# Altium integrated library NXP Microcontrollers ARM7.IntLib: 82 symbols (part 1 of 11)
Pins are listed as number, name and electrical type; pins without a type are passive.

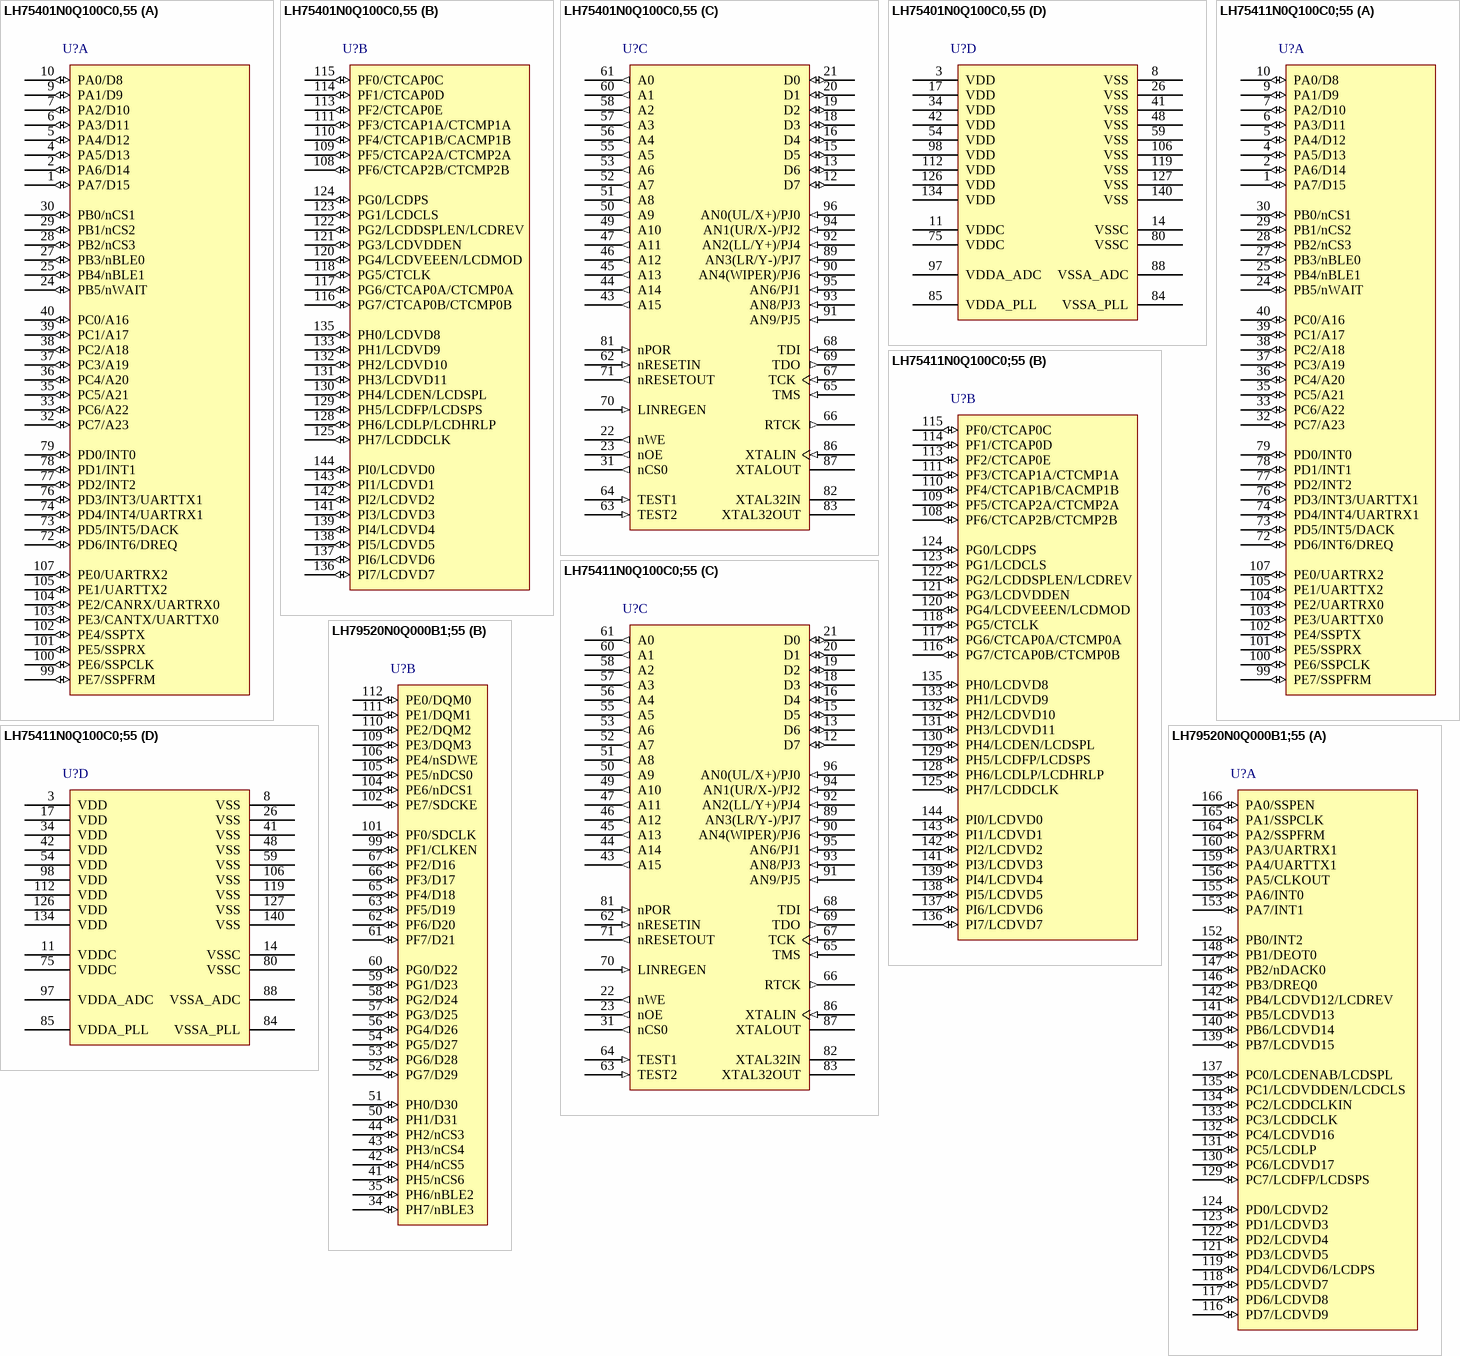
[diagram p0: symbols LH75401N0Q100C0,55 to LH79520N0Q000B1;55]

## LH75401N0Q100C0,55
designator U?
16/32-bit ARM7 Microcontroller, 76 I/O, 32 kB SRAM, -40 to 85 degC, 144-Pin LQFP, Tray; Manufacturer: NXP Semiconductors; PartNumber: LH75401N0Q100C0,55; # of timers: 3; ADC (bits): 10; ADC Channels: 8; CAN: 1; fmax [max] (MHz): 84; I/O Pins: 76; PLL: TRUE; RAM (KB): 32; Timer (bits): 16; DatasheetVersion: Rev. 02; PackageVersion: Feb-03; PackageReference: SOT486-1; PackageDescription: 144-Pin Plastic Low Profile Quad Flat Package, Body 20 x 20 mm, Pitch 0.5 mm; Supplier 1: Digi-Key; Supplier Part Number 1: 568-4269-ND; Supplier 2: Farnell; Supplier Part Number 2: 2072209; Supplier 3: Newark; Supplier Part Number 3: 70R5564; Supplier 4: Mouser; Supplier Part Number 4: 771-LH75401N0Q100C0S; Core: ARM7; LCD: 1; Packing: Tray; PWM: 3; SPI: 1; SSP: 1; UART: 3; Mounting Technology: Surface Mount; Code_JEDEC: MS-026; ComponentLink1Description: Manufacturer URL; ComponentLink1URL: http://www.nxp.com/; ComponentLink2Description: Datasheet; ComponentLink2URL: http://www.nxp.com/documents/data_sheet/LH75401_411_N.pdf; ComponentLink3Description: Package Specification; ComponentLink3URL: http://www.nxp.com/documents/outline_drawing/sot486-1_po.pdf
footprint NXP-SOT486-1_V (QFP, 144-Leads, Body 20x20mm, Pitch 0.5mm)
part A pins: 1 PA7/D15 (io), 2 PA6/D14 (io), 4 PA5/D13 (io), 5 PA4/D12 (io), 6 PA3/D11 (io), 7 PA2/D10 (io), 9 PA1/D9 (io), 10 PA0/D8 (io), 24 PB5/nWAIT (io), 25 PB4/nBLE1 (io), 27 PB3/nBLE0 (io), 28 PB2/nCS3 (io), 29 PB1/nCS2 (io), 30 PB0/nCS1 (io), 32 PC7/A23 (io), 33 PC6/A22 (io), 35 PC5/A21 (io), 36 PC4/A20 (io), 37 PC3/A19 (io), 38 PC2/A18 (io), 39 PC1/A17 (io), 40 PC0/A16 (io), 72 PD6/INT6/DREQ (io), 73 PD5/INT5/DACK (io), 74 PD4/INT4/UARTRX1 (io), 76 PD3/INT3/UARTTX1 (io), 77 PD2/INT2 (io), 78 PD1/INT1 (io), 79 PD0/INT0 (io), 99 PE7/SSPFRM (io), 100 PE6/SSPCLK (io), 101 PE5/SSPRX (io), 102 PE4/SSPTX (io), 103 PE3/CANTX/UARTTX0 (io), 104 PE2/CANRX/UARTRX0 (io), 105 PE1/UARTTX2 (io), 107 PE0/UARTRX2 (io)
part B pins: 108 PF6/CTCAP2B/CTCMP2B (io), 109 PF5/CTCAP2A/CTCMP2A (io), 110 PF4/CTCAP1B/CACMP1B (io), 111 PF3/CTCAP1A/CTCMP1A (io), 113 PF2/CTCAP0E (io), 114 PF1/CTCAP0D (io), 115 PF0/CTCAP0C (io), 116 PG7/CTCAP0B/CTCMP0B (io), 117 PG6/CTCAP0A/CTCMP0A (io), 118 PG5/CTCLK (io), 120 PG4/LCDVEEEN/LCDMOD (io), 121 PG3/LCDVDDEN (io), 122 PG2/LCDDSPLEN/LCDREV (io), 123 PG1/LCDCLS (io), 124 PG0/LCDPS (io), 125 PH7/LCDDCLK (io), 128 PH6/LCDLP/LCDHRLP (io), 129 PH5/LCDFP/LCDSPS (io), 130 PH4/LCDEN/LCDSPL (io), 131 PH3/LCDVD11 (io), 132 PH2/LCDVD10 (io), 133 PH1/LCDVD9 (io), 135 PH0/LCDVD8 (io), 136 PI7/LCDVD7 (io), 137 PI6/LCDVD6 (io), 138 PI5/LCDVD5 (io), 139 PI4/LCDVD4 (io), 141 PI3/LCDVD3 (io), 142 PI2/LCDVD2 (io), 143 PI1/LCDVD1 (io), 144 PI0/LCDVD0 (io)
part C pins: 12 D7 (io) "Data Input/Output Signals", 13 D6 (io) "Data Input/Output Signals", 15 D5 (io) "Data Input/Output Signals", 16 D4 (io) "Data Input/Output Signals", 18 D3 (io) "Data Input/Output Signals", 19 D2 (io) "Data Input/Output Signals", 20 D1 (io) "Data Input/Output Signals", 21 D0 (io) "Data Input/Output Signals", 22 nWE (out) "Static Memory Controller Write Enable", 23 nOE (out) "Static Memory Controller Output Enable", 31 nCS0 (out) "Static Memory Controller Chip Select", 43 A15 (out) "Address Signals", 44 A14 (out) "Address Signals", 45 A13 (out) "Address Signals", 46 A12 (out) "Address Signals", 47 A11 (out) "Address Signals", 49 A10 (out) "Address Signals", 50 A9 (out) "Address Signals", 51 A8 (out) "Address Signals", 52 A7 (out) "Address Signals", 53 A6 (out) "Address Signals", 55 A5 (out) "Address Signals", 56 A4 (out) "Address Signals", 57 A3 (out) "Address Signals", 58 A2 (out) "Address Signals", 60 A1 (out) "Address Signals", 61 A0 (out) "Address Signals", 62 nRESETIN (in) "User Reset Input", 63 TEST2 (in) "Test Mode Pin 2", 64 TEST1 (in) "Test Mode Pin 1", 65 TMS (in) "JTAG Test Mode Select Input", 66 RTCK (out) "Returned JTAG Test Clock Output", 67 TCK (in) "JTAG Test Clock Input", 68 TDI (in) "JTAG Test Serial Data Input", 69 TDO (out) "JTAG Test Data Serial Output", 70 LINREGEN (in) "Linear Regulator Enable", 71 nRESETOUT (out) "System Reset Output", 81 nPOR (in) "Power-on Reset Input", 82 XTAL32IN "32.768 kHz Crystal Clock Input", 83 XTAL32OUT "32.768 kHz Crystal Clock Output", 86 XTALIN (in) "Crystal Clock Input", 87 XTALOUT "Crystal Clock Output", 89 AN3(LR/Y-)/PJ7 (in), 90 AN4(WIPER)/PJ6 (in), 91 AN9/PJ5 (in), 92 AN2(LL/Y+)/PJ4 (in), 93 AN8/PJ3 (in), 94 AN1(UR/X-)/PJ2 (in), 95 AN6/PJ1 (in), 96 AN0(UL/X+)/PJ0 (in)
part D pins: 3 VDD (power) "I/O Ring VDD", 8 VSS (power) "I/O Ring VSS", 11 VDDC (power) "Core VDD supply (Output if Linear Regulator Enabled, Otherwise Input)", 14 VSSC (power) "Core VSS", 17 VDD (power) "I/O Ring VDD", 26 VSS (power) "I/O Ring VSS", 34 VDD (power) "I/O Ring VDD", 41 VSS (power) "I/O Ring VSS", 42 VDD (power) "I/O Ring VDD", 48 VSS (power) "I/O Ring VSS", 54 VDD (power) "I/O Ring VDD", 59 VSS (power) "I/O Ring VSS", 75 VDDC (power) "Core VDD supply (Output if Linear Regulator Enabled, Otherwise Input)", 80 VSSC (power) "Core VSS", 84 VSSA_PLL (power) "PLL Analog VSS", 85 VDDA_PLL (power) "PLL Analog VDD Supply", 88 VSSA_ADC (power) "A-to-D converter Analog VSS", 97 VDDA_ADC (power) "A-to-D converter Analog VDD Supply", 98 VDD (power) "I/O Ring VDD", 106 VSS (power) "I/O Ring VSS", 112 VDD (power) "I/O Ring VDD", 119 VSS (power) "I/O Ring VSS", 126 VDD (power) "I/O Ring VDD", 127 VSS (power) "I/O Ring VSS", 134 VDD (power) "I/O Ring VDD", 140 VSS (power) "I/O Ring VSS"

## LH75411N0Q100C0;55
designator U?
16/32-bit ARM7 Microcontroller, 76 I/O, 32 kB SRAM, -40 to 85 degC, 144-Pin LQFP, Tray; Manufacturer: NXP Semiconductors; PartNumber: LH75411N0Q100C0;55; # of timers: 3; ADC (bits): 10; ADC Channels: 8; CAN: 1; fmax [max] (MHz): 84; I/O Pins: 76; PLL: TRUE; RAM (KB): 32; Timer (bits): 16; DatasheetVersion: Rev. 02; PackageVersion: Feb-03; PackageReference: SOT486-1; PackageDescription: 144-Pin Plastic Low Profile Quad Flat Package, Body 20 x 20 mm, Pitch 0.5 mm; Supplier 1: Digi-Key; Supplier Part Number 1: 568-4330-ND; Supplier 2: Farnell; Supplier Part Number 2: 2072211; Supplier 3: Newark; Supplier Part Number 3: 83T7130; Supplier 4: Mouser; Supplier Part Number 4: 771-75411N0Q100C0557; Core: ARM7; LCD: 1; Packing: Tray; PWM: 3; SPI: 1; SSP: 1; UART: 3; Mounting Technology: Surface Mount; Code_JEDEC: MS-026; ComponentLink1Description: Manufacturer URL; ComponentLink1URL: http://www.nxp.com/; ComponentLink2Description: Datasheet; ComponentLink2URL: http://www.nxp.com/documents/data_sheet/LH75401_411_N.pdf; ComponentLink3Description: Package Specification; ComponentLink3URL: http://www.nxp.com/documents/outline_drawing/sot486-1_po.pdf
footprint NXP-SOT486-1_V (QFP, 144-Leads, Body 20x20mm, Pitch 0.5mm)
part A pins: 1 PA7/D15 (io), 2 PA6/D14 (io), 4 PA5/D13 (io), 5 PA4/D12 (io), 6 PA3/D11 (io), 7 PA2/D10 (io), 9 PA1/D9 (io), 10 PA0/D8 (io), 24 PB5/nWAIT (io), 25 PB4/nBLE1 (io), 27 PB3/nBLE0 (io), 28 PB2/nCS3 (io), 29 PB1/nCS2 (io), 30 PB0/nCS1 (io), 32 PC7/A23 (io), 33 PC6/A22 (io), 35 PC5/A21 (io), 36 PC4/A20 (io), 37 PC3/A19 (io), 38 PC2/A18 (io), 39 PC1/A17 (io), 40 PC0/A16 (io), 72 PD6/INT6/DREQ (io), 73 PD5/INT5/DACK (io), 74 PD4/INT4/UARTRX1 (io), 76 PD3/INT3/UARTTX1 (io), 77 PD2/INT2 (io), 78 PD1/INT1 (io), 79 PD0/INT0 (io), 99 PE7/SSPFRM (io), 100 PE6/SSPCLK (io), 101 PE5/SSPRX (io), 102 PE4/SSPTX (io), 103 PE3/UARTTX0 (io), 104 PE2/UARTRX0 (io), 105 PE1/UARTTX2 (io), 107 PE0/UARTRX2 (io)
part B pins: 108 PF6/CTCAP2B/CTCMP2B (io), 109 PF5/CTCAP2A/CTCMP2A (io), 110 PF4/CTCAP1B/CACMP1B (io), 111 PF3/CTCAP1A/CTCMP1A (io), 113 PF2/CTCAP0E (io), 114 PF1/CTCAP0D (io), 115 PF0/CTCAP0C (io), 116 PG7/CTCAP0B/CTCMP0B (io), 117 PG6/CTCAP0A/CTCMP0A (io), 118 PG5/CTCLK (io), 120 PG4/LCDVEEEN/LCDMOD (io), 121 PG3/LCDVDDEN (io), 122 PG2/LCDDSPLEN/LCDREV (io), 123 PG1/LCDCLS (io), 124 PG0/LCDPS (io), 125 PH7/LCDDCLK (io), 128 PH6/LCDLP/LCDHRLP (io), 129 PH5/LCDFP/LCDSPS (io), 130 PH4/LCDEN/LCDSPL (io), 131 PH3/LCDVD11 (io), 132 PH2/LCDVD10 (io), 133 PH1/LCDVD9 (io), 135 PH0/LCDVD8 (io), 136 PI7/LCDVD7 (io), 137 PI6/LCDVD6 (io), 138 PI5/LCDVD5 (io), 139 PI4/LCDVD4 (io), 141 PI3/LCDVD3 (io), 142 PI2/LCDVD2 (io), 143 PI1/LCDVD1 (io), 144 PI0/LCDVD0 (io)
part C pins: 12 D7 (io) "Data Input/Output Signals", 13 D6 (io) "Data Input/Output Signals", 15 D5 (io) "Data Input/Output Signals", 16 D4 (io) "Data Input/Output Signals", 18 D3 (io) "Data Input/Output Signals", 19 D2 (io) "Data Input/Output Signals", 20 D1 (io) "Data Input/Output Signals", 21 D0 (io) "Data Input/Output Signals", 22 nWE (out) "Static Memory Controller Write Enable", 23 nOE (out) "Static Memory Controller Output Enable", 31 nCS0 (out) "Static Memory Controller Chip Select", 43 A15 (out) "Address Signals", 44 A14 (out) "Address Signals", 45 A13 (out) "Address Signals", 46 A12 (out) "Address Signals", 47 A11 (out) "Address Signals", 49 A10 (out) "Address Signals", 50 A9 (out) "Address Signals", 51 A8 (out) "Address Signals", 52 A7 (out) "Address Signals", 53 A6 (out) "Address Signals", 55 A5 (out) "Address Signals", 56 A4 (out) "Address Signals", 57 A3 (out) "Address Signals", 58 A2 (out) "Address Signals", 60 A1 (out) "Address Signals", 61 A0 (out) "Address Signals", 62 nRESETIN (in) "User Reset Input", 63 TEST2 (in) "Test Mode Pin 2", 64 TEST1 (in) "Test Mode Pin 1", 65 TMS (in) "JTAG Test Mode Select Input", 66 RTCK (out) "Returned JTAG Test Clock Output", 67 TCK (in) "JTAG Test Clock Input", 68 TDI (in) "JTAG Test Serial Data Input", 69 TDO (out) "JTAG Test Data Serial Output", 70 LINREGEN (in) "Linear Regulator Enable", 71 nRESETOUT (out) "System Reset Output", 81 nPOR (in) "Power-on Reset Input", 82 XTAL32IN "32.768 kHz Crystal Clock Input", 83 XTAL32OUT "32.768 kHz Crystal Clock Output", 86 XTALIN (in) "Crystal Clock Input", 87 XTALOUT "Crystal Clock Output", 89 AN3(LR/Y-)/PJ7 (in), 90 AN4(WIPER)/PJ6 (in), 91 AN9/PJ5 (in), 92 AN2(LL/Y+)/PJ4 (in), 93 AN8/PJ3 (in), 94 AN1(UR/X-)/PJ2 (in), 95 AN6/PJ1 (in), 96 AN0(UL/X+)/PJ0 (in)
part D pins: 3 VDD (power) "I/O Ring VDD", 8 VSS (power) "I/O Ring VSS", 11 VDDC (power) "Core VDD supply (Output if Linear Regulator Enabled, Otherwise Input)", 14 VSSC (power) "Core VSS", 17 VDD (power) "I/O Ring VDD", 26 VSS (power) "I/O Ring VSS", 34 VDD (power) "I/O Ring VDD", 41 VSS (power) "I/O Ring VSS", 42 VDD (power) "I/O Ring VDD", 48 VSS (power) "I/O Ring VSS", 54 VDD (power) "I/O Ring VDD", 59 VSS (power) "I/O Ring VSS", 75 VDDC (power) "Core VDD supply (Output if Linear Regulator Enabled, Otherwise Input)", 80 VSSC (power) "Core VSS", 84 VSSA_PLL (power) "PLL Analog VSS", 85 VDDA_PLL (power) "PLL Analog VDD Supply", 88 VSSA_ADC (power) "A-to-D converter Analog VSS", 97 VDDA_ADC (power) "A-to-D converter Analog VDD Supply", 98 VDD (power) "I/O Ring VDD", 106 VSS (power) "I/O Ring VSS", 112 VDD (power) "I/O Ring VDD", 119 VSS (power) "I/O Ring VSS", 126 VDD (power) "I/O Ring VDD", 127 VSS (power) "I/O Ring VSS", 134 VDD (power) "I/O Ring VDD", 140 VSS (power) "I/O Ring VSS"

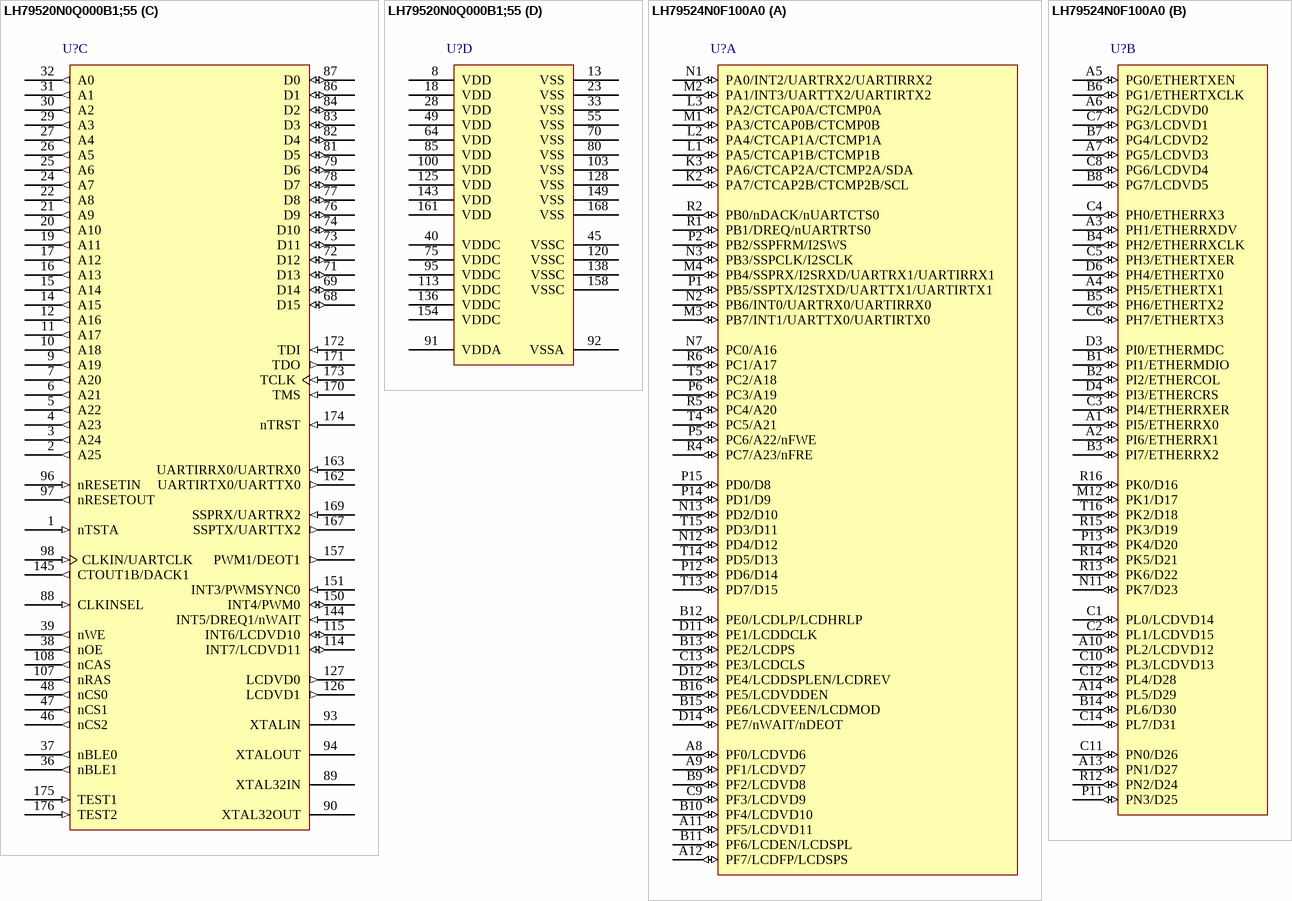
[diagram p1: symbols LH79520N0Q000B1;55 to LH79524N0F100A0]

## LH79520N0Q000B1;55
designator U?
32-bit ARM7 Microcontroller, 64 I/O, 32 kB SRAM, -40 to 85 degC, 176-Pin LQFP, Tray; Manufacturer: NXP Semiconductors; PartNumber: LH79520N0Q000B1;55; # of timers: 4; fmax [max] (MHz): 77.4144; I/O Pins: 64; LCD: 1; PLL: TRUE; PWM: 2; RAM (KB): 32; Timer (bits): 16; UART: 3; DatasheetVersion: Rev. 02; PackageVersion: Aug-07; PackageReference: SOT1017-1; PackageDescription: 176-Pin Plastic Low Profile Quad Flat Package, Body 20 x 20 mm, Pitch 0.4 mm; Supplier 1: Digi-Key; Supplier Part Number 1: 568-4331-ND; Supplier 2: Farnell; Supplier Part Number 2: 2072212; Supplier 3: Newark; Supplier Part Number 3: 83T7131; Supplier 4: Mouser; Supplier Part Number 4: 771-79520N0Q000B1557; Core: ARM7; Packing: Tray; SPI: 1; SSP: 1; Mounting Technology: Surface Mount; Code_JEDEC: MS-026; ComponentLink1Description: Manufacturer URL; ComponentLink1URL: http://www.nxp.com/; ComponentLink2Description: Datasheet; ComponentLink2URL: http://www.nxp.com/documents/data_sheet/LH79520_N.pdf; ComponentLink3Description: Package Specification; ComponentLink3URL: http://www.nxp.com/documents/outline_drawing/sot1017-1_po.pdf
footprint NXP-SOT1017-1_V (QFP, 176-Leads, Body 20x20mm, Pitch 0.4mm)
part A pins: 116 PD7/LCDVD9 (io), 117 PD6/LCDVD8 (io), 118 PD5/LCDVD7 (io), 119 PD4/LCDVD6/LCDPS (io), 121 PD3/LCDVD5 (io), 122 PD2/LCDVD4 (io), 123 PD1/LCDVD3 (io), 124 PD0/LCDVD2 (io), 129 PC7/LCDFP/LCDSPS (io), 130 PC6/LCDVD17 (io), 131 PC5/LCDLP (io), 132 PC4/LCDVD16 (io), 133 PC3/LCDDCLK (io), 134 PC2/LCDDCLKIN (io), 135 PC1/LCDVDDEN/LCDCLS (io), 137 PC0/LCDENAB/LCDSPL (io), 139 PB7/LCDVD15 (io), 140 PB6/LCDVD14 (io), 141 PB5/LCDVD13 (io), 142 PB4/LCDVD12/LCDREV (io), 146 PB3/DREQ0 (io), 147 PB2/nDACK0 (io), 148 PB1/DEOT0 (io), 152 PB0/INT2 (io), 153 PA7/INT1 (io), 155 PA6/INT0 (io), 156 PA5/CLKOUT (io), 159 PA4/UARTTX1 (io), 160 PA3/UARTRX1 (io), 164 PA2/SSPFRM (io), 165 PA1/SSPCLK (io), 166 PA0/SSPEN (io)
part B pins: 34 PH7/nBLE3 (io), 35 PH6/nBLE2 (io), 41 PH5/nCS6 (io), 42 PH4/nCS5 (io), 43 PH3/nCS4 (io), 44 PH2/nCS3 (io), 50 PH1/D31 (io), 51 PH0/D30 (io), 52 PG7/D29 (io), 53 PG6/D28 (io), 54 PG5/D27 (io), 56 PG4/D26 (io), 57 PG3/D25 (io), 58 PG2/D24 (io), 59 PG1/D23 (io), 60 PG0/D22 (io), 61 PF7/D21 (io), 62 PF6/D20 (io), 63 PF5/D19 (io), 65 PF4/D18 (io), 66 PF3/D17 (io), 67 PF2/D16 (io), 99 PF1/CLKEN (io), 101 PF0/SDCLK (io), 102 PE7/SDCKE (io), 104 PE6/nDCS1 (io), 105 PE5/nDCS0 (io), 106 PE4/nSDWE (io), 109 PE3/DQM3 (io), 110 PE2/DQM2 (io), 111 PE1/DQM1 (io), 112 PE0/DQM0 (io)
part C pins: 1 nTSTA (in) "Tie HIGH for Normal Operation (has internal pull-up).", 2 A25 (out) "Address Signals", 3 A24 (out) "Address Signals", 4 A23 (out) "Address Signals", 5 A22 (out) "Address Signals", 6 A21 (out) "Address Signals", 7 A20 (out) "Address Signals", 9 A19 (out) "Address Signals", 10 A18 (out) "Address Signals", 11 A17 (out) "Address Signals", 12 A16 (out) "Address Signals", 14 A15 (out) "Address Signals", 15 A14 (out) "Address Signals", 16 A13 (out) "Address Signals", 17 A12 (out) "Address Signals", 19 A11 (out) "Address Signals", 20 A10 (out) "Address Signals", 21 A9 (out) "Address Signals", 22 A8 (out) "Address Signals", 24 A7 (out) "Address Signals", 25 A6 (out) "Address Signals", 26 A5 (out) "Address Signals", 27 A4 (out) "Address Signals", 29 A3 (out) "Address Signals", 30 A2 (out) "Address Signals", 31 A1 (out) "Address Signals", 32 A0 (out) "Address Signals", 36 nBLE1 (out) "Static Memory Controller Byte Lane Enable/Byte Write Enable", 37 nBLE0 (out) "Static Memory Controller Byte Lane Enable/Byte Write Enable", 38 nOE (out) "Static Memory Controller Output Enable", 39 nWE (out) "Static Memory Controller Write Enable", 46 nCS2 (out) "Static Memory Controller Chip Select", 47 nCS1 (out) "Static Memory Controller Chip Select", 48 nCS0 (out) "Static Memory Controller Chip Select", 68 D15 (io) "Data Input/Output Signals", 69 D14 (io) "Data Input/Output Signals", 71 D13 (io) "Data Input/Output Signals", 72 D12 (io) "Data Input/Output Signals", 73 D11 (io) "Data Input/Output Signals", 74 D10 (io) "Data Input/Output Signals", 76 D9 (io) "Data Input/Output Signals", 77 D8 (io) "Data Input/Output Signals", 78 D7 (io) "Data Input/Output Signals", 79 D6 (io) "Data Input/Output Signals", 81 D5 (io) "Data Input/Output Signals", 82 D4 (io) "Data Input/Output Signals", 83 D3 (io) "Data Input/Output Signals", 84 D2 (io) "Data Input/Output Signals", 86 D1 (io) "Data Input/Output Signals", 87 D0 (io) "Data Input/Output Signals", 88 CLKINSEL (in) "External Clock Select", 89 XTAL32IN "32.768 kHz Crystal Oscillator Input", 90 XTAL32OUT "32.768 kHz Crystal Oscillator Output", 93 XTALIN "Crystal Input", 94 XTALOUT "Crystal Output", 96 nRESETIN (in) "Reset Input", 97 nRESETOUT (out) "Reset Output", 98 CLKIN/UARTCLK (in), 107 nRAS (out) "Row Address Strobe", 108 nCAS (out) "Column Address Strobe", 114 INT7/LCDVD11 (io), 115 INT6/LCDVD10 (io), 126 LCDVD1 (out) "LCD Panel Data bus", 127 LCDVD0 (out) "LCD Panel Data bus", 144 INT5/DREQ1/nWAIT (in), 145 CTOUT1B/DACK1 (out), 150 INT4/PWM0 (io), 151 INT3/PWMSYNC0 (in), 157 PWM1/DEOT1 (out), 162 UARTIRTX0/UARTTX0 (out), 163 UARTIRRX0/UARTRX0 (in), 167 SSPTX/UARTTX2 (out), 169 SSPRX/UARTRX2 (in), 170 TMS (in) "JTAG Test Mode Select Input", 171 TDO (out) "JTAG Test Data Serial Output", 172 TDI (in) "JTAG Test Serial Data Input", 173 TCLK (in) "JTAG Test Clock Input", 174 nTRST (in) "JTAG Test Reset Input", 175 TEST1 (in) "Tie LOW for Normal Operation (has internal pull-down).", 176 TEST2 (in) "JTAG Debug Enable: Tie LOW for Normal Operation; pull HIGH to enable JTAG Debugging (has internal pull-down)."
part D pins: 8 VDD (power) "Input/Output Power Supply", 13 VSS (power) "Input/Output GND", 18 VDD (power) "Input/Output Power Supply", 23 VSS (power) "Input/Output GND", 28 VDD (power) "Input/Output Power Supply", 33 VSS (power) "Input/Output GND", 40 VDDC (power) "Core Power Supply", 45 VSSC (power) "Core GND", 49 VDD (power) "Input/Output Power Supply", 55 VSS (power) "Input/Output GND", 64 VDD (power) "Input/Output Power Supply", 70 VSS (power) "Input/Output GND", 75 VDDC (power) "Core Power Supply", 80 VSS (power) "Input/Output GND", 85 VDD (power) "Input/Output Power Supply", 91 VDDA (power) "Analog Power Supply for PLLs and XTAL Oscillators", 92 VSSA (power) "Analog GND for PLLs and XTAL Oscillators", 95 VDDC (power) "Core Power Supply", 100 VDD (power) "Input/Output Power Supply", 103 VSS (power) "Input/Output GND", 113 VDDC (power) "Core Power Supply", 120 VSSC (power) "Core GND", 125 VDD (power) "Input/Output Power Supply", 128 VSS (power) "Input/Output GND", 136 VDDC (power) "Core Power Supply", 138 VSSC (power) "Core GND", 143 VDD (power) "Input/Output Power Supply", 149 VSS (power) "Input/Output GND", 154 VDDC (power) "Core Power Supply", 158 VSSC (power) "Core GND", 161 VDD (power) "Input/Output Power Supply", 168 VSS (power) "Input/Output GND"

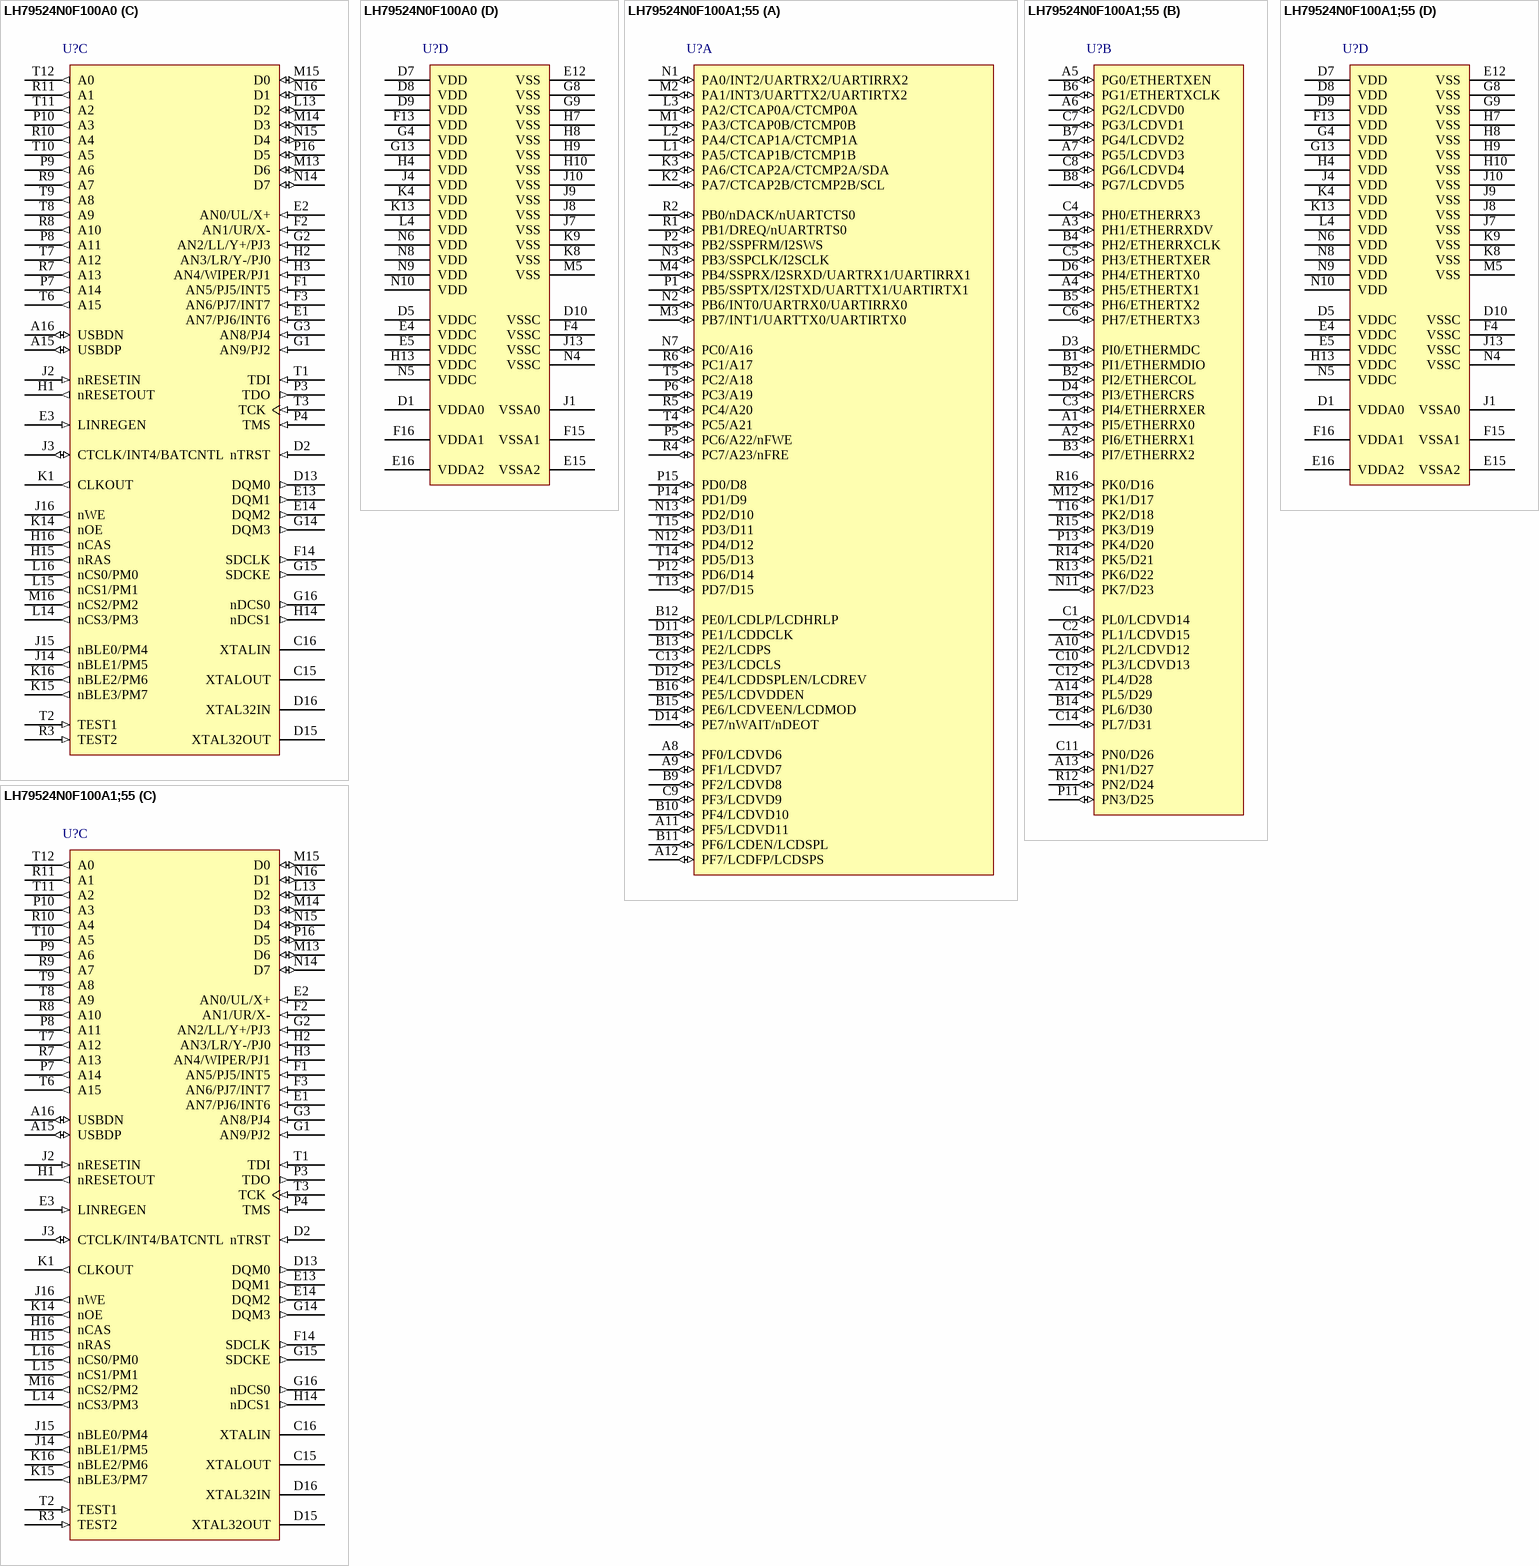
[diagram p2: symbols LH79524N0F100A0 to LH79524N0F100A1;55]

## LH79524N0F100A0
designator U?
32-bit ARM7 Microcontroller, 108 I/O, 16 kB SRAM, -40 to 85 degC, 208-Ball LFBGA, Tray; Manufacturer: NXP Semiconductors; PartNumber: LH79524N0F100A0; # of timers: 3; ADC (bits): 10; Ethernet: 1; fmax [max] (MHz): 76.205; I/O Pins: 108; PLL: TRUE; RAM (KB): 16; DatasheetVersion: Rev. 02; PackageVersion: Aug-07; PackageReference: SOT1019-1; PackageDescription: 208-Ball Plastic Low Profile Fine-Pitch Ball Grid Array Package, Body 14 x 14 mm, Pitch 0.8 mm; Supplier 1: Mouser; Supplier Part Number 1: N/A; ADC Channels: 10; Core: ARM7; I2C: 1; LCD: 1; Packing: Tray; PWM: 3; SPI: 1; SSP: 1; Timer (bits): 16; UART: 3; USB: 1; Mounting Technology: Surface Mount; ComponentLink1Description: Manufacturer URL; ComponentLink1URL: http://www.nxp.com/; ComponentLink2Description: Datasheet; ComponentLink2URL: http://www.nxp.com/documents/data_sheet/LH79524_525_N.pdf; ComponentLink3Description: Package Specification; ComponentLink3URL: http://www.nxp.com/documents/outline_drawing/sot1019-1_po.pdf
footprint NXP-SOT1019-1 (BGA, 208-Balls, Body 14x14mm, Pitch 0.8mm)
part A pins: A8 PF0/LCDVD6 (io), A9 PF1/LCDVD7 (io), A11 PF5/LCDVD11 (io), A12 PF7/LCDFP/LCDSPS (io), B9 PF2/LCDVD8 (io), B10 PF4/LCDVD10 (io), B11 PF6/LCDEN/LCDSPL (io), B12 PE0/LCDLP/LCDHRLP (io), B13 PE2/LCDPS (io), B15 PE6/LCDVEEN/LCDMOD (io), B16 PE5/LCDVDDEN (io), C9 PF3/LCDVD9 (io), C13 PE3/LCDCLS (io), D11 PE1/LCDDCLK (io), D12 PE4/LCDDSPLEN/LCDREV (io), D14 PE7/nWAIT/nDEOT (io), K2 PA7/CTCAP2B/CTCMP2B/SCL (io), K3 PA6/CTCAP2A/CTCMP2A/SDA (io), L1 PA5/CTCAP1B/CTCMP1B (io), L2 PA4/CTCAP1A/CTCMP1A (io), L3 PA2/CTCAP0A/CTCMP0A (io), M1 PA3/CTCAP0B/CTCMP0B (io), M2 PA1/INT3/UARTTX2/UARTIRTX2 (io), M3 PB7/INT1/UARTTX0/UARTIRTX0 (io), M4 PB4/SSPRX/I2SRXD/UARTRX1/UARTIRRX1 (io), N1 PA0/INT2/UARTRX2/UARTIRRX2 (io), N2 PB6/INT0/UARTRX0/UARTIRRX0 (io), N3 PB3/SSPCLK/I2SCLK (io), N7 PC0/A16 (io), N12 PD4/D12 (io), N13 PD2/D10 (io), P1 PB5/SSPTX/I2STXD/UARTTX1/UARTIRTX1 (io), P2 PB2/SSPFRM/I2SWS (io), P5 PC6/A22/nFWE (io), P6 PC3/A19 (io), P12 PD6/D14 (io), P14 PD1/D9 (io), P15 PD0/D8 (io), R1 PB1/DREQ/nUARTRTS0 (io), R2 PB0/nDACK/nUARTCTS0 (io), R4 PC7/A23/nFRE (io), R5 PC4/A20 (io), R6 PC1/A17 (io), T4 PC5/A21 (io), T5 PC2/A18 (io), T13 PD7/D15 (io), T14 PD5/D13 (io), T15 PD3/D11 (io)
part B pins: A1 PI5/ETHERRX0 (io), A2 PI6/ETHERRX1 (io), A3 PH1/ETHERRXDV (io), A4 PH5/ETHERTX1 (io), A5 PG0/ETHERTXEN (io), A6 PG2/LCDVD0 (io), A7 PG5/LCDVD3 (io), A10 PL2/LCDVD12 (io), A13 PN1/D27 (io), A14 PL5/D29 (io), B1 PI1/ETHERMDIO (io), B2 PI2/ETHERCOL (io), B3 PI7/ETHERRX2 (io), B4 PH2/ETHERRXCLK (io), B5 PH6/ETHERTX2 (io), B6 PG1/ETHERTXCLK (io), B7 PG4/LCDVD2 (io), B8 PG7/LCDVD5 (io), B14 PL6/D30 (io), C1 PL0/LCDVD14 (io), C2 PL1/LCDVD15 (io), C3 PI4/ETHERRXER (io), C4 PH0/ETHERRX3 (io), C5 PH3/ETHERTXER (io), C6 PH7/ETHERTX3 (io), C7 PG3/LCDVD1 (io), C8 PG6/LCDVD4 (io), C10 PL3/LCDVD13 (io), C11 PN0/D26 (io), C12 PL4/D28 (io), C14 PL7/D31 (io), D3 PI0/ETHERMDC (io), D4 PI3/ETHERCRS (io), D6 PH4/ETHERTX0 (io), M12 PK1/D17 (io), N11 PK7/D23 (io), P11 PN3/D25 (io), P13 PK4/D20 (io), R12 PN2/D24 (io), R13 PK6/D22 (io), R14 PK5/D21 (io), R15 PK3/D19 (io), R16 PK0/D16 (io), T16 PK2/D18 (io)
part C pins: A15 USBDP (io) "USB Data Positive (Differential Pair output, single ended and Differential pair input)", A16 USBDN (io) "USB Data Negative (Differential Pair output, single ended and Differential pair input)", C15 XTALOUT "Crystal Output", C16 XTALIN "Crystal Input", D2 nTRST (in) "JTAG Test Reset Input", D13 DQM0 (out) "Data Mask Output to SDRAMs", D15 XTAL32OUT "32.768 kHz Crystal Oscillator Output", D16 XTAL32IN "32.768 kHz Crystal Oscillator Input", E1 AN7/PJ6/INT6 (in), E2 AN0/UL/X+ (in), E3 LINREGEN (in) "Linear Regulator Enable", E13 DQM1 (out) "Data Mask Output to SDRAMs", E14 DQM2 (out) "Data Mask Output to SDRAMs", F1 AN5/PJ5/INT5 (in), F2 AN1/UR/X- (in), F3 AN6/PJ7/INT7 (in), F14 SDCLK (out) "SDRAM Clock", G1 AN9/PJ2 (in), G2 AN2/LL/Y+/PJ3 (in), G3 AN8/PJ4 (in), G14 DQM3 (out) "Data Mask Output to SDRAMs", G15 SDCKE (out) "SDRAM Clock Enable", G16 nDCS0 (out) "SDRAM Chip Select", H1 nRESETOUT (out) "Reset Output", H2 AN3/LR/Y-/PJ0 (in), H3 AN4/WIPER/PJ1 (in), H14 nDCS1 (out) "SDRAM Chip Select", H15 nRAS (out) "Row Address Strobe", H16 nCAS (out) "Column Address Strobe", J2 nRESETIN (in) "Reset Input", J3 CTCLK/INT4/BATCNTL (io), J14 nBLE1/PM5 (out), J15 nBLE0/PM4 (out), J16 nWE (out) "Static Memory Write Enable", K1 CLKOUT (out) "Clock Out (selectable from the internal bus clock or 32.768 kHz crystal)", K14 nOE (out) "Static Memory Output Enable", K15 nBLE3/PM7 (out), K16 nBLE2/PM6 (out), L13 D2 (io) "External Data Bus", L14 nCS3/PM3 (out), L15 nCS1/PM1 (out), L16 nCS0/PM0 (out), M13 D6 (io) "External Data Bus", M14 D3 (io) "External Data Bus", M15 D0 (io) "External Data Bus", M16 nCS2/PM2 (out), N14 D7 (io) "External Data Bus", N15 D4 (io) "External Data Bus", N16 D1 (io) "External Data Bus", P3 TDO (out) "JTAG Test Data Serial Output", P4 TMS (in) "JTAG Test Mode Select Input", P7 A14 (out) "External Address Bus", P8 A11 (out) "External Address Bus", P9 A6 (out) "External Address Bus", P10 A3 (out) "External Address Bus", P16 D5 (io) "External Data Bus", R3 TEST2 (in) "Tie HIGH for Normal Operation; pull HIGH to enable Embedded ICE Debugging", R7 A13 (out) "External Address Bus", R8 A10 (out) "External Address Bus", R9 A7 (out) "External Address Bus", R10 A4 (out) "External Address Bus", R11 A1 (out) "External Address Bus", T1 TDI (in) "JTAG Test Serial Data Input", T2 TEST1 (in) "Tie HIGH for Normal Operation; pull LOW to enable Embedded ICE Debugging", T3 TCK (in) "JTAG Test Clock Input", T6 A15 (out) "External Address Bus", T7 A12 (out) "External Address Bus", T8 A9 (out) "External Address Bus", T9 A8 (out) "External Address Bus", T10 A5 (out) "External Address Bus", T11 A2 (out) "External Address Bus", T12 A0 (out) "External Address Bus"
part D pins: D1 VDDA0 (power) "Analog Power Supply for Analog-to-Digital Converter", D5 VDDC (power) "Core Power Supply", D7 VDD (power) "Input/Output Power Supply", D8 VDD (power) "Input/Output Power Supply", D9 VDD (power) "Input/Output Power Supply", D10 VSSC (power) "Core GND", E4 VDDC (power) "Core Power Supply", E5 VDDC (power) "Core Power Supply", E12 VSS (power) "Input/Output GND", E15 VSSA2 (power) "Analog GND for System PLL", E16 VDDA2 (power) "Analog Power Supply for System PLL", F4 VSSC (power) "Core GND", F13 VDD (power) "Input/Output Power Supply", F15 VSSA1 (power) "Analog GND for the USB PLL", F16 VDDA1 (power) "Analog Power Supply for the USB PLL", G4 VDD (power) "Input/Output Power Supply", G8 VSS (power) "Input/Output GND", G9 VSS (power) "Input/Output GND", G13 VDD (power) "Input/Output Power Supply", H4 VDD (power) "Input/Output Power Supply", H7 VSS (power) "Input/Output GND", H8 VSS (power) "Input/Output GND", H9 VSS (power) "Input/Output GND", H10 VSS (power) "Input/Output GND", H13 VDDC (power) "Core Power Supply", J1 VSSA0 (power) "Analog GND for Analog-to-Digital Converter", J4 VDD (power) "Input/Output Power Supply", J7 VSS (power) "Input/Output GND", J8 VSS (power) "Input/Output GND", J9 VSS (power) "Input/Output GND", J10 VSS (power) "Input/Output GND", J13 VSSC (power) "Core GND", K4 VDD (power) "Input/Output Power Supply", K8 VSS (power) "Input/Output GND", K9 VSS (power) "Input/Output GND", K13 VDD (power) "Input/Output Power Supply", L4 VDD (power) "Input/Output Power Supply", M5 VSS (power) "Input/Output GND", N4 VSSC (power) "Core GND", N5 VDDC (power) "Core Power Supply", N6 VDD (power) "Input/Output Power Supply", N8 VDD (power) "Input/Output Power Supply", N9 VDD (power) "Input/Output Power Supply", N10 VDD (power) "Input/Output Power Supply"

## LH79524N0F100A1;55
designator U?
32-bit ARM7 Microcontroller, 108 I/O, 16 kB SRAM, -40 to 85 degC, 208-Ball LFBGA, Tray; Manufacturer: NXP Semiconductors; PartNumber: LH79524N0F100A1;55; # of timers: 3; ADC (bits): 10; Ethernet: 1; fmax [max] (MHz): 76.205; I/O Pins: 108; PLL: TRUE; RAM (KB): 16; DatasheetVersion: Rev. 02; PackageVersion: Aug-07; PackageReference: SOT1019-1; PackageDescription: 208-Ball Plastic Low Profile Fine-Pitch Ball Grid Array Package, Body 14 x 14 mm, Pitch 0.8 mm; Supplier 1: Digi-Key; Supplier Part Number 1: 568-4332-ND; Supplier 2: Farnell; Supplier Part Number 2: 2072213; Supplier 3: Mouser; Supplier Part Number 3: 771-79524N0F100A1557; ADC Channels: 10; Core: ARM7; I2C: 1; LCD: 1; Packing: Tray; PWM: 3; SPI: 1; SSP: 1; Timer (bits): 16; UART: 3; USB: 1; Mounting Technology: Surface Mount; ComponentLink1Description: Manufacturer URL; ComponentLink1URL: http://www.nxp.com/; ComponentLink2Description: Datasheet; ComponentLink2URL: http://www.nxp.com/documents/data_sheet/LH79524_525_N.pdf; ComponentLink3Description: Package Specification; ComponentLink3URL: http://www.nxp.com/documents/outline_drawing/sot1019-1_po.pdf
footprint NXP-SOT1019-1 (BGA, 208-Balls, Body 14x14mm, Pitch 0.8mm)
part A pins: A8 PF0/LCDVD6 (io), A9 PF1/LCDVD7 (io), A11 PF5/LCDVD11 (io), A12 PF7/LCDFP/LCDSPS (io), B9 PF2/LCDVD8 (io), B10 PF4/LCDVD10 (io), B11 PF6/LCDEN/LCDSPL (io), B12 PE0/LCDLP/LCDHRLP (io), B13 PE2/LCDPS (io), B15 PE6/LCDVEEN/LCDMOD (io), B16 PE5/LCDVDDEN (io), C9 PF3/LCDVD9 (io), C13 PE3/LCDCLS (io), D11 PE1/LCDDCLK (io), D12 PE4/LCDDSPLEN/LCDREV (io), D14 PE7/nWAIT/nDEOT (io), K2 PA7/CTCAP2B/CTCMP2B/SCL (io), K3 PA6/CTCAP2A/CTCMP2A/SDA (io), L1 PA5/CTCAP1B/CTCMP1B (io), L2 PA4/CTCAP1A/CTCMP1A (io), L3 PA2/CTCAP0A/CTCMP0A (io), M1 PA3/CTCAP0B/CTCMP0B (io), M2 PA1/INT3/UARTTX2/UARTIRTX2 (io), M3 PB7/INT1/UARTTX0/UARTIRTX0 (io), M4 PB4/SSPRX/I2SRXD/UARTRX1/UARTIRRX1 (io), N1 PA0/INT2/UARTRX2/UARTIRRX2 (io), N2 PB6/INT0/UARTRX0/UARTIRRX0 (io), N3 PB3/SSPCLK/I2SCLK (io), N7 PC0/A16 (io), N12 PD4/D12 (io), N13 PD2/D10 (io), P1 PB5/SSPTX/I2STXD/UARTTX1/UARTIRTX1 (io), P2 PB2/SSPFRM/I2SWS (io), P5 PC6/A22/nFWE (io), P6 PC3/A19 (io), P12 PD6/D14 (io), P14 PD1/D9 (io), P15 PD0/D8 (io), R1 PB1/DREQ/nUARTRTS0 (io), R2 PB0/nDACK/nUARTCTS0 (io), R4 PC7/A23/nFRE (io), R5 PC4/A20 (io), R6 PC1/A17 (io), T4 PC5/A21 (io), T5 PC2/A18 (io), T13 PD7/D15 (io), T14 PD5/D13 (io), T15 PD3/D11 (io)
part B pins: A1 PI5/ETHERRX0 (io), A2 PI6/ETHERRX1 (io), A3 PH1/ETHERRXDV (io), A4 PH5/ETHERTX1 (io), A5 PG0/ETHERTXEN (io), A6 PG2/LCDVD0 (io), A7 PG5/LCDVD3 (io), A10 PL2/LCDVD12 (io), A13 PN1/D27 (io), A14 PL5/D29 (io), B1 PI1/ETHERMDIO (io), B2 PI2/ETHERCOL (io), B3 PI7/ETHERRX2 (io), B4 PH2/ETHERRXCLK (io), B5 PH6/ETHERTX2 (io), B6 PG1/ETHERTXCLK (io), B7 PG4/LCDVD2 (io), B8 PG7/LCDVD5 (io), B14 PL6/D30 (io), C1 PL0/LCDVD14 (io), C2 PL1/LCDVD15 (io), C3 PI4/ETHERRXER (io), C4 PH0/ETHERRX3 (io), C5 PH3/ETHERTXER (io), C6 PH7/ETHERTX3 (io), C7 PG3/LCDVD1 (io), C8 PG6/LCDVD4 (io), C10 PL3/LCDVD13 (io), C11 PN0/D26 (io), C12 PL4/D28 (io), C14 PL7/D31 (io), D3 PI0/ETHERMDC (io), D4 PI3/ETHERCRS (io), D6 PH4/ETHERTX0 (io), M12 PK1/D17 (io), N11 PK7/D23 (io), P11 PN3/D25 (io), P13 PK4/D20 (io), R12 PN2/D24 (io), R13 PK6/D22 (io), R14 PK5/D21 (io), R15 PK3/D19 (io), R16 PK0/D16 (io), T16 PK2/D18 (io)
part C pins: A15 USBDP (io) "USB Data Positive (Differential Pair output, single ended and Differential pair input)", A16 USBDN (io) "USB Data Negative (Differential Pair output, single ended and Differential pair input)", C15 XTALOUT "Crystal Output", C16 XTALIN "Crystal Input", D2 nTRST (in) "JTAG Test Reset Input", D13 DQM0 (out) "Data Mask Output to SDRAMs", D15 XTAL32OUT "32.768 kHz Crystal Oscillator Output", D16 XTAL32IN "32.768 kHz Crystal Oscillator Input", E1 AN7/PJ6/INT6 (in), E2 AN0/UL/X+ (in), E3 LINREGEN (in) "Linear Regulator Enable", E13 DQM1 (out) "Data Mask Output to SDRAMs", E14 DQM2 (out) "Data Mask Output to SDRAMs", F1 AN5/PJ5/INT5 (in), F2 AN1/UR/X- (in), F3 AN6/PJ7/INT7 (in), F14 SDCLK (out) "SDRAM Clock", G1 AN9/PJ2 (in), G2 AN2/LL/Y+/PJ3 (in), G3 AN8/PJ4 (in), G14 DQM3 (out) "Data Mask Output to SDRAMs", G15 SDCKE (out) "SDRAM Clock Enable", G16 nDCS0 (out) "SDRAM Chip Select", H1 nRESETOUT (out) "Reset Output", H2 AN3/LR/Y-/PJ0 (in), H3 AN4/WIPER/PJ1 (in), H14 nDCS1 (out) "SDRAM Chip Select", H15 nRAS (out) "Row Address Strobe", H16 nCAS (out) "Column Address Strobe", J2 nRESETIN (in) "Reset Input", J3 CTCLK/INT4/BATCNTL (io), J14 nBLE1/PM5 (out), J15 nBLE0/PM4 (out), J16 nWE (out) "Static Memory Write Enable", K1 CLKOUT (out) "Clock Out (selectable from the internal bus clock or 32.768 kHz crystal)", K14 nOE (out) "Static Memory Output Enable", K15 nBLE3/PM7 (out), K16 nBLE2/PM6 (out), L13 D2 (io) "External Data Bus", L14 nCS3/PM3 (out), L15 nCS1/PM1 (out), L16 nCS0/PM0 (out), M13 D6 (io) "External Data Bus", M14 D3 (io) "External Data Bus", M15 D0 (io) "External Data Bus", M16 nCS2/PM2 (out), N14 D7 (io) "External Data Bus", N15 D4 (io) "External Data Bus", N16 D1 (io) "External Data Bus", P3 TDO (out) "JTAG Test Data Serial Output", P4 TMS (in) "JTAG Test Mode Select Input", P7 A14 (out) "External Address Bus", P8 A11 (out) "External Address Bus", P9 A6 (out) "External Address Bus", P10 A3 (out) "External Address Bus", P16 D5 (io) "External Data Bus", R3 TEST2 (in) "Tie HIGH for Normal Operation; pull HIGH to enable Embedded ICE Debugging", R7 A13 (out) "External Address Bus", R8 A10 (out) "External Address Bus", R9 A7 (out) "External Address Bus", R10 A4 (out) "External Address Bus", R11 A1 (out) "External Address Bus", T1 TDI (in) "JTAG Test Serial Data Input", T2 TEST1 (in) "Tie HIGH for Normal Operation; pull LOW to enable Embedded ICE Debugging", T3 TCK (in) "JTAG Test Clock Input", T6 A15 (out) "External Address Bus", T7 A12 (out) "External Address Bus", T8 A9 (out) "External Address Bus", T9 A8 (out) "External Address Bus", T10 A5 (out) "External Address Bus", T11 A2 (out) "External Address Bus", T12 A0 (out) "External Address Bus"
part D pins: D1 VDDA0 (power) "Analog Power Supply for Analog-to-Digital Converter", D5 VDDC (power) "Core Power Supply", D7 VDD (power) "Input/Output Power Supply", D8 VDD (power) "Input/Output Power Supply", D9 VDD (power) "Input/Output Power Supply", D10 VSSC (power) "Core GND", E4 VDDC (power) "Core Power Supply", E5 VDDC (power) "Core Power Supply", E12 VSS (power) "Input/Output GND", E15 VSSA2 (power) "Analog GND for System PLL", E16 VDDA2 (power) "Analog Power Supply for System PLL", F4 VSSC (power) "Core GND", F13 VDD (power) "Input/Output Power Supply", F15 VSSA1 (power) "Analog GND for the USB PLL", F16 VDDA1 (power) "Analog Power Supply for the USB PLL", G4 VDD (power) "Input/Output Power Supply", G8 VSS (power) "Input/Output GND", G9 VSS (power) "Input/Output GND", G13 VDD (power) "Input/Output Power Supply", H4 VDD (power) "Input/Output Power Supply", H7 VSS (power) "Input/Output GND", H8 VSS (power) "Input/Output GND", H9 VSS (power) "Input/Output GND", H10 VSS (power) "Input/Output GND", H13 VDDC (power) "Core Power Supply", J1 VSSA0 (power) "Analog GND for Analog-to-Digital Converter", J4 VDD (power) "Input/Output Power Supply", J7 VSS (power) "Input/Output GND", J8 VSS (power) "Input/Output GND", J9 VSS (power) "Input/Output GND", J10 VSS (power) "Input/Output GND", J13 VSSC (power) "Core GND", K4 VDD (power) "Input/Output Power Supply", K8 VSS (power) "Input/Output GND", K9 VSS (power) "Input/Output GND", K13 VDD (power) "Input/Output Power Supply", L4 VDD (power) "Input/Output Power Supply", M5 VSS (power) "Input/Output GND", N4 VSSC (power) "Core GND", N5 VDDC (power) "Core Power Supply", N6 VDD (power) "Input/Output Power Supply", N8 VDD (power) "Input/Output Power Supply", N9 VDD (power) "Input/Output Power Supply", N10 VDD (power) "Input/Output Power Supply"

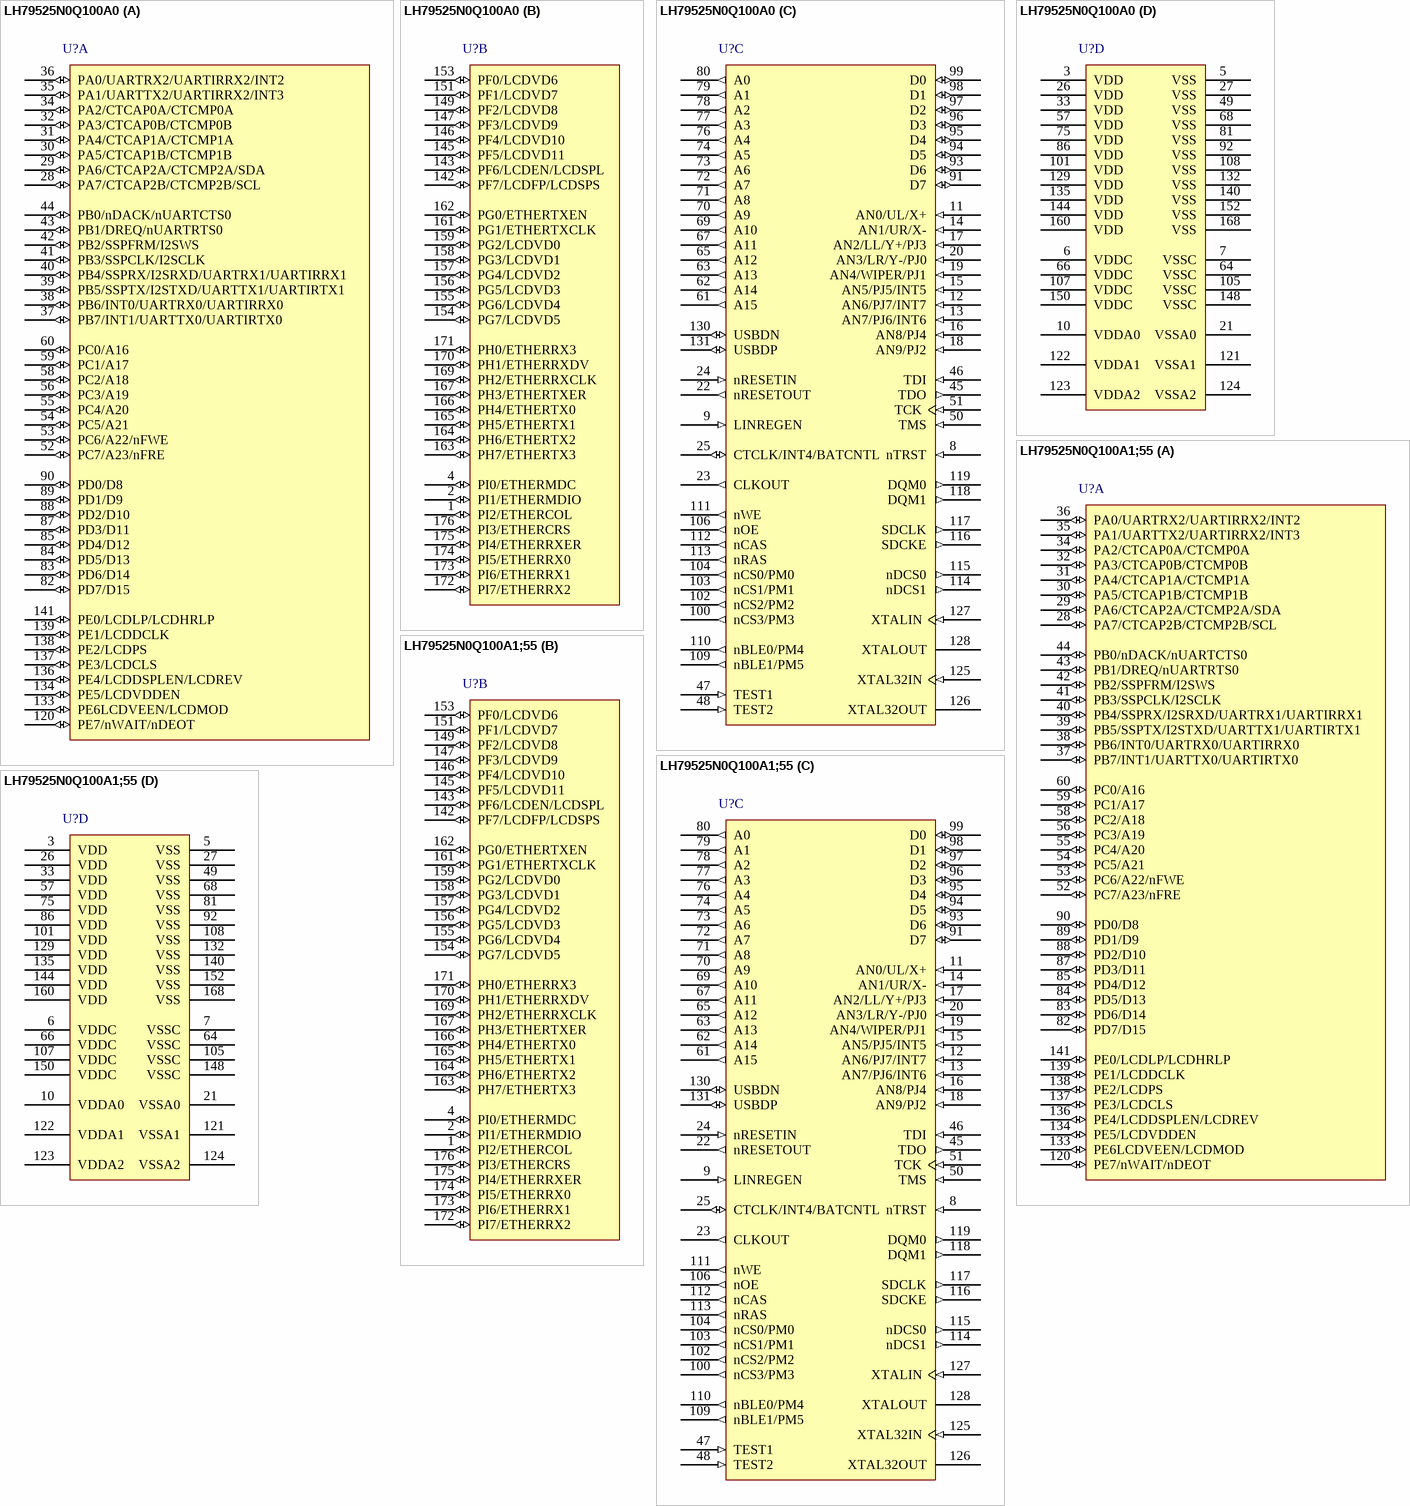
[diagram p3: symbols LH79525N0Q100A0 to LH79525N0Q100A1;55]

## LH79525N0Q100A0
designator U?
32-bit ARM7 Microcontroller, 86 I/O, 16 kB SRAM, -40 to 85 degC, 176-Pin LQFP, Tray; Manufacturer: NXP Semiconductors; PartNumber: LH79525N0Q100A0; # of timers: 3; ADC (bits): 10; Ethernet: 1; fmax [max] (MHz): 76.205; I/O Pins: 86; PLL: TRUE; RAM (KB): 16; DatasheetVersion: Rev. 02; PackageVersion: Aug-07; PackageReference: SOT1017-1; PackageDescription: 176-Pin Plastic Low Profile Quad Flat Package, Body 20 x 20 mm, Pitch 0.4 mm; Supplier 1: Mouser; Supplier Part Number 1: N/A; ADC Channels: 10; Core: ARM7; I2C: 1; LCD: 1; Packing: Tray; PWM: 3; SPI: 1; SSP: 1; Timer (bits): 16; UART: 3; USB: 1; Mounting Technology: Surface Mount; Code_JEDEC: MS-026; ComponentLink1Description: Manufacturer URL; ComponentLink1URL: http://www.nxp.com/; ComponentLink2Description: Datasheet; ComponentLink2URL: http://www.nxp.com/documents/data_sheet/LH79524_525_N.pdf; ComponentLink3Description: Package Specification; ComponentLink3URL: http://www.nxp.com/documents/outline_drawing/sot1017-1_po.pdf
footprint NXP-SOT1017-1_V (QFP, 176-Leads, Body 20x20mm, Pitch 0.4mm)
part A pins: 28 PA7/CTCAP2B/CTCMP2B/SCL (io), 29 PA6/CTCAP2A/CTCMP2A/SDA (io), 30 PA5/CTCAP1B/CTCMP1B (io), 31 PA4/CTCAP1A/CTCMP1A (io), 32 PA3/CTCAP0B/CTCMP0B (io), 34 PA2/CTCAP0A/CTCMP0A (io), 35 PA1/UARTTX2/UARTIRRX2/INT3 (io), 36 PA0/UARTRX2/UARTIRRX2/INT2 (io), 37 PB7/INT1/UARTTX0/UARTIRTX0 (io), 38 PB6/INT0/UARTRX0/UARTIRRX0 (io), 39 PB5/SSPTX/I2STXD/UARTTX1/UARTIRTX1 (io), 40 PB4/SSPRX/I2SRXD/UARTRX1/UARTIRRX1 (io), 41 PB3/SSPCLK/I2SCLK (io), 42 PB2/SSPFRM/I2SWS (io), 43 PB1/DREQ/nUARTRTS0 (io), 44 PB0/nDACK/nUARTCTS0 (io), 52 PC7/A23/nFRE (io), 53 PC6/A22/nFWE (io), 54 PC5/A21 (io), 55 PC4/A20 (io), 56 PC3/A19 (io), 58 PC2/A18 (io), 59 PC1/A17 (io), 60 PC0/A16 (io), 82 PD7/D15 (io), 83 PD6/D14 (io), 84 PD5/D13 (io), 85 PD4/D12 (io), 87 PD3/D11 (io), 88 PD2/D10 (io), 89 PD1/D9 (io), 90 PD0/D8 (io), 120 PE7/nWAIT/nDEOT (io), 133 PE6LCDVEEN/LCDMOD (io), 134 PE5/LCDVDDEN (io), 136 PE4/LCDDSPLEN/LCDREV (io), 137 PE3/LCDCLS (io), 138 PE2/LCDPS (io), 139 PE1/LCDDCLK (io), 141 PE0/LCDLP/LCDHRLP (io)
part B pins: 1 PI2/ETHERCOL (io), 2 PI1/ETHERMDIO (io), 4 PI0/ETHERMDC (io), 142 PF7/LCDFP/LCDSPS (io), 143 PF6/LCDEN/LCDSPL (io), 145 PF5/LCDVD11 (io), 146 PF4/LCDVD10 (io), 147 PF3/LCDVD9 (io), 149 PF2/LCDVD8 (io), 151 PF1/LCDVD7 (io), 153 PF0/LCDVD6 (io), 154 PG7/LCDVD5 (io), 155 PG6/LCDVD4 (io), 156 PG5/LCDVD3 (io), 157 PG4/LCDVD2 (io), 158 PG3/LCDVD1 (io), 159 PG2/LCDVD0 (io), 161 PG1/ETHERTXCLK (io), 162 PG0/ETHERTXEN (io), 163 PH7/ETHERTX3 (io), 164 PH6/ETHERTX2 (io), 165 PH5/ETHERTX1 (io), 166 PH4/ETHERTX0 (io), 167 PH3/ETHERTXER (io), 169 PH2/ETHERRXCLK (io), 170 PH1/ETHERRXDV (io), 171 PH0/ETHERRX3 (io), 172 PI7/ETHERRX2 (io), 173 PI6/ETHERRX1 (io), 174 PI5/ETHERRX0 (io), 175 PI4/ETHERRXER (io), 176 PI3/ETHERCRS (io)
part C pins: 8 nTRST (in) "JTAG Test Reset Input", 9 LINREGEN (in) "Linear Regulator Enable (Requires pull-up. See User’s Guide)", 11 AN0/UL/X+ (in), 12 AN6/PJ7/INT7 (in), 13 AN7/PJ6/INT6 (in), 14 AN1/UR/X- (in), 15 AN5/PJ5/INT5 (in), 16 AN8/PJ4 (in), 17 AN2/LL/Y+/PJ3 (in), 18 AN9/PJ2 (in), 19 AN4/WIPER/PJ1 (in), 20 AN3/LR/Y-/PJ0 (in), 22 nRESETOUT (out) "Reset Output", 23 CLKOUT (out) "Clock Out (selectable from the internal bus clock or 32.768 MHz)", 24 nRESETIN (in) "Reset Input", 25 CTCLK/INT4/BATCNTL (io), 45 TDO (out) "JTAG Test Data Serial Output", 46 TDI (in) "JTAG Test Serial Data Input", 47 TEST1 (in) "Tie HIGH for Normal Operation; pull LOW to enable embedded ICE Debugging", 48 TEST2 (in) "Tie HIGH for Normal Operation; pull HIGH to enable embedded ICE Debugging", 50 TMS (in) "JTAG Test Mode Select Input", 51 TCK (in) "JTAG Test Clock Input", 61 A15 (out) "External Address Bus", 62 A14 (out) "External Address Bus", 63 A13 (out) "External Address Bus", 65 A12 (out) "External Address Bus", 67 A11 (out) "External Address Bus", 69 A10 (out) "External Address Bus", 70 A9 (out) "External Address Bus", 71 A8 (out) "External Address Bus", 72 A7 (out) "External Address Bus", 73 A6 (out) "External Address Bus", 74 A5 (out) "External Address Bus", 76 A4 (out) "External Address Bus", 77 A3 (out) "External Address Bus", 78 A2 (out) "External Address Bus", 79 A1 (out) "External Address Bus", 80 A0 (out) "External Address Bus", 91 D7 (io) "External Data Bus", 93 D6 (io) "External Data Bus", 94 D5 (io) "External Data Bus", 95 D4 (io) "External Data Bus", 96 D3 (io) "External Data Bus", 97 D2 (io) "External Data Bus", 98 D1 (io) "External Data Bus", 99 D0 (io) "External Data Bus", 100 nCS3/PM3 (out), 102 nCS2/PM2 (out), 103 nCS1/PM1 (out), 104 nCS0/PM0 (out), 106 nOE (out) "Static Memory Output Enable", 109 nBLE1/PM5 (out), 110 nBLE0/PM4 (out), 111 nWE (out) "Static Memory Write Enable", 112 nCAS (out) "Column Address Strobe", 113 nRAS (out) "Row Address Strobe", 114 nDCS1 (out) "SDRAM Chip Select", 115 nDCS0 (out) "SDRAM Chip Select", 116 SDCKE (out) "SDRAM Clock Enable", 117 SDCLK (out) "SDRAM Clock", 118 DQM1 (out) "Data Mask Output to SDRAMs", 119 DQM0 (out) "Data Mask Output to SDRAMs", 125 XTAL32IN (in) "32.768 kHz Crystal Oscillator Input, or external clock input,", 126 XTAL32OUT "32.768 kHz Crystal Oscillator Output", 127 XTALIN (in) "Crystal Input, or external clock input", 128 XTALOUT "Crystal Output", 130 USBDN (io) "USB Data Negative (Differential Pair output, single ended and Differential input)", 131 USBDP (io) "USB Data Positive (Differential Pair output, single ended and Differential input)"
part D pins: 3 VDD (power) "Input/Output Power Supply", 5 VSS (power) "Input/Output GND", 6 VDDC (power) "Core Power Supply", 7 VSSC (power) "Core GND", 10 VDDA0 (power) "Analog Power Supply for Analog-to-Digital Converter", 21 VSSA0 (power) "Analog GND for Analog-to-Digital Converter", 26 VDD (power) "Input/Output Power Supply", 27 VSS (power) "Input/Output GND", 33 VDD (power) "Input/Output Power Supply", 49 VSS (power) "Input/Output GND", 57 VDD (power) "Input/Output Power Supply", 64 VSSC (power) "Core GND", 66 VDDC (power) "Core Power Supply", 68 VSS (power) "Input/Output GND", 75 VDD (power) "Input/Output Power Supply", 81 VSS (power) "Input/Output GND", 86 VDD (power) "Input/Output Power Supply", 92 VSS (power) "Input/Output GND", 101 VDD (power) "Input/Output Power Supply", 105 VSSC (power) "Core GND", 107 VDDC (power) "Core Power Supply", 108 VSS (power) "Input/Output GND", 121 VSSA1 (power) "Analog GND for the USB PLL", 122 VDDA1 (power) "Analog Power Supply for the USB PLL", 123 VDDA2 (power) "Analog Power Supply for System PLL", 124 VSSA2 (power) "Analog GND for System PLL", 129 VDD (power) "Input/Output Power Supply", 132 VSS (power) "Input/Output GND", 135 VDD (power) "Input/Output Power Supply", 140 VSS (power) "Input/Output GND", 144 VDD (power) "Input/Output Power Supply", 148 VSSC (power) "Core GND", 150 VDDC (power) "Core Power Supply", 152 VSS (power) "Input/Output GND", 160 VDD (power) "Input/Output Power Supply", 168 VSS (power) "Input/Output GND"

## LH79525N0Q100A1;55
designator U?
32-bit ARM7 Microcontroller, 86 I/O, 16 kB SRAM, -40 to 85 degC, 176-Pin LQFP, Tray; Manufacturer: NXP Semiconductors; PartNumber: LH79525N0Q100A1;55; # of timers: 3; ADC (bits): 10; Ethernet: 1; fmax [max] (MHz): 76.205; I/O Pins: 86; PLL: TRUE; RAM (KB): 16; DatasheetVersion: Rev. 02; PackageVersion: Aug-07; PackageReference: SOT1017-1; PackageDescription: 176-Pin Plastic Low Profile Quad Flat Package, Body 20 x 20 mm, Pitch 0.4 mm; Supplier 1: Digi-Key; Supplier Part Number 1: 568-4333-ND; Supplier 2: Farnell; Supplier Part Number 2: 2072214; Supplier 3: Newark; Supplier Part Number 3: 70R5568; Supplier 4: Mouser; Supplier Part Number 4: 771-79525N0Q100A1557; ADC Channels: 10; Core: ARM7; I2C: 1; LCD: 1; Packing: Tray; PWM: 3; SPI: 1; SSP: 1; Timer (bits): 16; UART: 3; USB: 1; Mounting Technology: Surface Mount; Code_JEDEC: MS-026; ComponentLink1Description: Manufacturer URL; ComponentLink1URL: http://www.nxp.com/; ComponentLink2Description: Datasheet; ComponentLink2URL: http://www.nxp.com/documents/data_sheet/LH79524_525_N.pdf; ComponentLink3Description: Package Specification; ComponentLink3URL: http://www.nxp.com/documents/outline_drawing/sot1017-1_po.pdf
footprint NXP-SOT1017-1_V (QFP, 176-Leads, Body 20x20mm, Pitch 0.4mm)
part A pins: 28 PA7/CTCAP2B/CTCMP2B/SCL (io), 29 PA6/CTCAP2A/CTCMP2A/SDA (io), 30 PA5/CTCAP1B/CTCMP1B (io), 31 PA4/CTCAP1A/CTCMP1A (io), 32 PA3/CTCAP0B/CTCMP0B (io), 34 PA2/CTCAP0A/CTCMP0A (io), 35 PA1/UARTTX2/UARTIRRX2/INT3 (io), 36 PA0/UARTRX2/UARTIRRX2/INT2 (io), 37 PB7/INT1/UARTTX0/UARTIRTX0 (io), 38 PB6/INT0/UARTRX0/UARTIRRX0 (io), 39 PB5/SSPTX/I2STXD/UARTTX1/UARTIRTX1 (io), 40 PB4/SSPRX/I2SRXD/UARTRX1/UARTIRRX1 (io), 41 PB3/SSPCLK/I2SCLK (io), 42 PB2/SSPFRM/I2SWS (io), 43 PB1/DREQ/nUARTRTS0 (io), 44 PB0/nDACK/nUARTCTS0 (io), 52 PC7/A23/nFRE (io), 53 PC6/A22/nFWE (io), 54 PC5/A21 (io), 55 PC4/A20 (io), 56 PC3/A19 (io), 58 PC2/A18 (io), 59 PC1/A17 (io), 60 PC0/A16 (io), 82 PD7/D15 (io), 83 PD6/D14 (io), 84 PD5/D13 (io), 85 PD4/D12 (io), 87 PD3/D11 (io), 88 PD2/D10 (io), 89 PD1/D9 (io), 90 PD0/D8 (io), 120 PE7/nWAIT/nDEOT (io), 133 PE6LCDVEEN/LCDMOD (io), 134 PE5/LCDVDDEN (io), 136 PE4/LCDDSPLEN/LCDREV (io), 137 PE3/LCDCLS (io), 138 PE2/LCDPS (io), 139 PE1/LCDDCLK (io), 141 PE0/LCDLP/LCDHRLP (io)
part B pins: 1 PI2/ETHERCOL (io), 2 PI1/ETHERMDIO (io), 4 PI0/ETHERMDC (io), 142 PF7/LCDFP/LCDSPS (io), 143 PF6/LCDEN/LCDSPL (io), 145 PF5/LCDVD11 (io), 146 PF4/LCDVD10 (io), 147 PF3/LCDVD9 (io), 149 PF2/LCDVD8 (io), 151 PF1/LCDVD7 (io), 153 PF0/LCDVD6 (io), 154 PG7/LCDVD5 (io), 155 PG6/LCDVD4 (io), 156 PG5/LCDVD3 (io), 157 PG4/LCDVD2 (io), 158 PG3/LCDVD1 (io), 159 PG2/LCDVD0 (io), 161 PG1/ETHERTXCLK (io), 162 PG0/ETHERTXEN (io), 163 PH7/ETHERTX3 (io), 164 PH6/ETHERTX2 (io), 165 PH5/ETHERTX1 (io), 166 PH4/ETHERTX0 (io), 167 PH3/ETHERTXER (io), 169 PH2/ETHERRXCLK (io), 170 PH1/ETHERRXDV (io), 171 PH0/ETHERRX3 (io), 172 PI7/ETHERRX2 (io), 173 PI6/ETHERRX1 (io), 174 PI5/ETHERRX0 (io), 175 PI4/ETHERRXER (io), 176 PI3/ETHERCRS (io)
part C pins: 8 nTRST (in) "JTAG Test Reset Input", 9 LINREGEN (in) "Linear Regulator Enable (Requires pull-up. See User’s Guide)", 11 AN0/UL/X+ (in), 12 AN6/PJ7/INT7 (in), 13 AN7/PJ6/INT6 (in), 14 AN1/UR/X- (in), 15 AN5/PJ5/INT5 (in), 16 AN8/PJ4 (in), 17 AN2/LL/Y+/PJ3 (in), 18 AN9/PJ2 (in), 19 AN4/WIPER/PJ1 (in), 20 AN3/LR/Y-/PJ0 (in), 22 nRESETOUT (out) "Reset Output", 23 CLKOUT (out) "Clock Out (selectable from the internal bus clock or 32.768 MHz)", 24 nRESETIN (in) "Reset Input", 25 CTCLK/INT4/BATCNTL (io), 45 TDO (out) "JTAG Test Data Serial Output", 46 TDI (in) "JTAG Test Serial Data Input", 47 TEST1 (in) "Tie HIGH for Normal Operation; pull LOW to enable embedded ICE Debugging", 48 TEST2 (in) "Tie HIGH for Normal Operation; pull HIGH to enable embedded ICE Debugging", 50 TMS (in) "JTAG Test Mode Select Input", 51 TCK (in) "JTAG Test Clock Input", 61 A15 (out) "External Address Bus", 62 A14 (out) "External Address Bus", 63 A13 (out) "External Address Bus", 65 A12 (out) "External Address Bus", 67 A11 (out) "External Address Bus", 69 A10 (out) "External Address Bus", 70 A9 (out) "External Address Bus", 71 A8 (out) "External Address Bus", 72 A7 (out) "External Address Bus", 73 A6 (out) "External Address Bus", 74 A5 (out) "External Address Bus", 76 A4 (out) "External Address Bus", 77 A3 (out) "External Address Bus", 78 A2 (out) "External Address Bus", 79 A1 (out) "External Address Bus", 80 A0 (out) "External Address Bus", 91 D7 (io) "External Data Bus", 93 D6 (io) "External Data Bus", 94 D5 (io) "External Data Bus", 95 D4 (io) "External Data Bus", 96 D3 (io) "External Data Bus", 97 D2 (io) "External Data Bus", 98 D1 (io) "External Data Bus", 99 D0 (io) "External Data Bus", 100 nCS3/PM3 (out), 102 nCS2/PM2 (out), 103 nCS1/PM1 (out), 104 nCS0/PM0 (out), 106 nOE (out) "Static Memory Output Enable", 109 nBLE1/PM5 (out), 110 nBLE0/PM4 (out), 111 nWE (out) "Static Memory Write Enable", 112 nCAS (out) "Column Address Strobe", 113 nRAS (out) "Row Address Strobe", 114 nDCS1 (out) "SDRAM Chip Select", 115 nDCS0 (out) "SDRAM Chip Select", 116 SDCKE (out) "SDRAM Clock Enable", 117 SDCLK (out) "SDRAM Clock", 118 DQM1 (out) "Data Mask Output to SDRAMs", 119 DQM0 (out) "Data Mask Output to SDRAMs", 125 XTAL32IN (in) "32.768 kHz Crystal Oscillator Input, or external clock input,", 126 XTAL32OUT "32.768 kHz Crystal Oscillator Output", 127 XTALIN (in) "Crystal Input, or external clock input", 128 XTALOUT "Crystal Output", 130 USBDN (io) "USB Data Negative (Differential Pair output, single ended and Differential input)", 131 USBDP (io) "USB Data Positive (Differential Pair output, single ended and Differential input)"
part D pins: 3 VDD (power) "Input/Output Power Supply", 5 VSS (power) "Input/Output GND", 6 VDDC (power) "Core Power Supply", 7 VSSC (power) "Core GND", 10 VDDA0 (power) "Analog Power Supply for Analog-to-Digital Converter", 21 VSSA0 (power) "Analog GND for Analog-to-Digital Converter", 26 VDD (power) "Input/Output Power Supply", 27 VSS (power) "Input/Output GND", 33 VDD (power) "Input/Output Power Supply", 49 VSS (power) "Input/Output GND", 57 VDD (power) "Input/Output Power Supply", 64 VSSC (power) "Core GND", 66 VDDC (power) "Core Power Supply", 68 VSS (power) "Input/Output GND", 75 VDD (power) "Input/Output Power Supply", 81 VSS (power) "Input/Output GND", 86 VDD (power) "Input/Output Power Supply", 92 VSS (power) "Input/Output GND", 101 VDD (power) "Input/Output Power Supply", 105 VSSC (power) "Core GND", 107 VDDC (power) "Core Power Supply", 108 VSS (power) "Input/Output GND", 121 VSSA1 (power) "Analog GND for the USB PLL", 122 VDDA1 (power) "Analog Power Supply for the USB PLL", 123 VDDA2 (power) "Analog Power Supply for System PLL", 124 VSSA2 (power) "Analog GND for System PLL", 129 VDD (power) "Input/Output Power Supply", 132 VSS (power) "Input/Output GND", 135 VDD (power) "Input/Output Power Supply", 140 VSS (power) "Input/Output GND", 144 VDD (power) "Input/Output Power Supply", 148 VSSC (power) "Core GND", 150 VDDC (power) "Core Power Supply", 152 VSS (power) "Input/Output GND", 160 VDD (power) "Input/Output Power Supply", 168 VSS (power) "Input/Output GND"

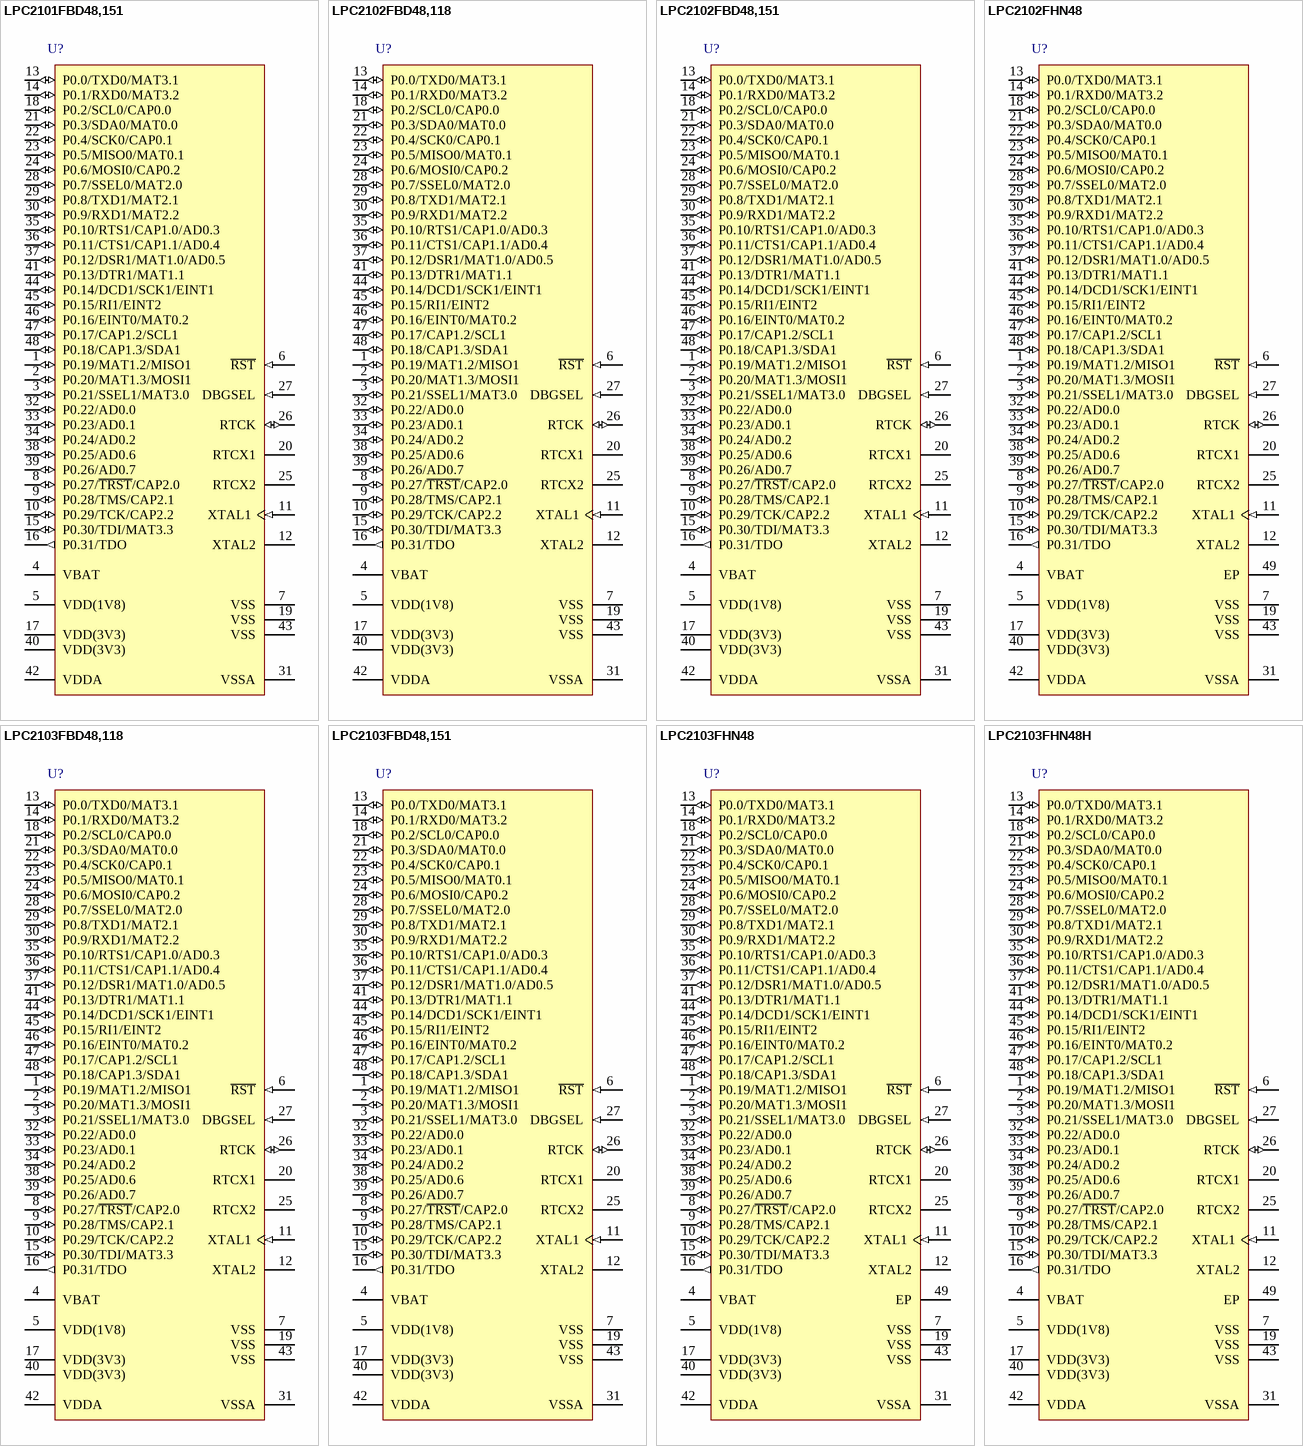
[diagram p4: symbols LPC2101FBD48,151 to LPC2103FHN48H]